# Altium footprint library J 晶振.PcbLib: 6 footprints
Each footprint in its own frame and in the unit in brackets; x right, y up, seen from the top. Pads: shape width x height; smd on the part's side, far side on the other; paste and mask are expansions set on the pad; w line width, h text height; cw(c..) or ccw(c..) is an arc to the next point about the centre after c.
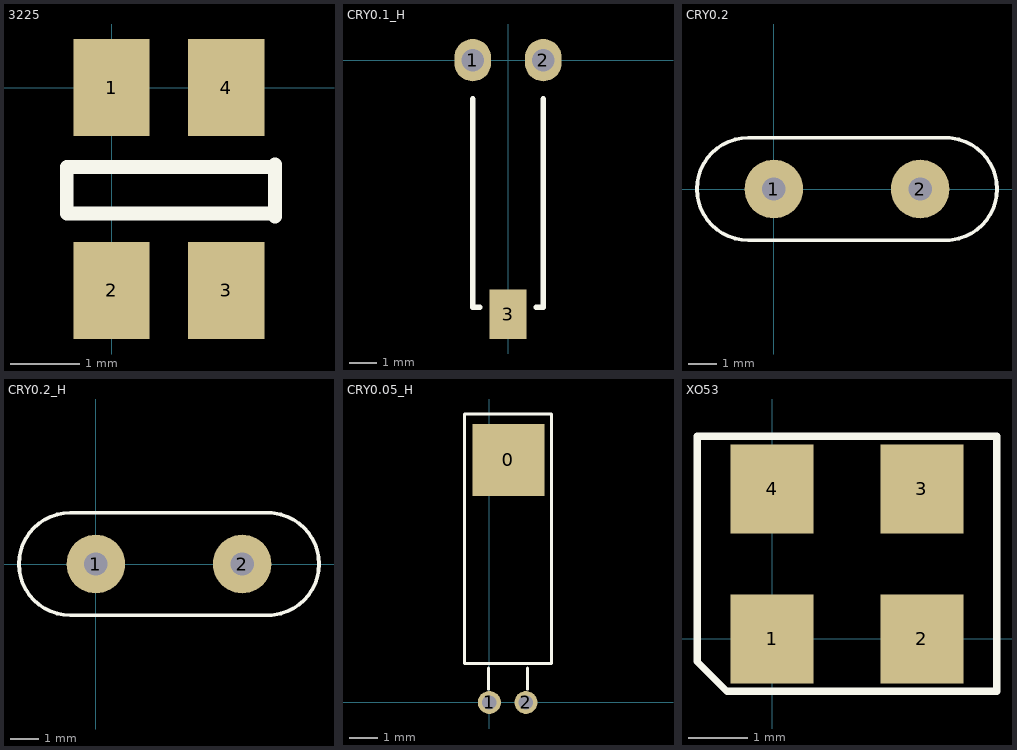
[diagram p0: the footprints below, top view; thin cyan lines are the x and y axes]

## 3225 [mm] "长3.2mm,宽2.5mm,高0.6mm"
pads (4):
  rect 1.1x1.4 smd: 1(0,0) 2(0,-2.921) 3(1.651,-2.921) 4(1.651,0)
Top Overlay:
  lines w0.2: 2.356,-1.856 2.356,-1.146 -0.644,-1.146 -0.644,-1.816 2.356,-1.816 2.356,-1.106

## CRY0.1_H [mil]
height 104.33
pads (3):
  oval 52x60 hole 32: 1(-50,0) 2(50,0)
  rect 52x70 smd: 3(0,-360)
Top Overlay:
  lines w8: -50,-55 -50,-350 -40,-350 ; 40,-350 50,-350 50,-55
3D body: height 119.06, standoff 0.94, extent -59.06,-357.44 59.06,115

## CRY0.2 [mil] "晶振"
height 144.88
pads (2):
  round 80 hole 32: 1(0,0) 2(200,0)
Top Overlay:
  lines w5: 235,-70 ccw(c235,0) 235,70 ; 240,-70 -35,-70 cw(c-35,0) -35,70 240,70

## CRY0.2_H [mil] "晶振"
height 531.5
pads (2):
  round 80 hole 32: 1(0,0) 2(200,0)
Top Overlay:
  lines w5: 235,-70 ccw(c235,0) 235,70 ; 240,-70 -35,-70 cw(c-35,0) -35,70 240,70

## CRY0.05_H [mm] "晶振"
pads (3):
  rect 2.5x2.5 smd: 0(0.66,8.407)
  round 0.8 hole 0.5: 1(0,0) 2(1.27,0)
Top Overlay:
  lines w0.1: -0.025,0.457 -0.025,1.194 ; 1.321,0.457 1.321,1.194 ; 2.116,10 -0.864,10 -0.864,1.346 2.159,1.346 2.159,10

## XO53 [mm] "XO53有源晶振"
height 1.2
pads (4):
  rect 1.4x1.5 smd: 1(0,0) 2(2.54,0) 3(2.54,2.54) 4(0,2.54)
Top Overlay:
  lines w0.127: -1.27,-0.381 -1.27,3.429 3.81,3.429 3.81,-0.889 -0.762,-0.889 -1.27,-0.381